# Altium schematic symbol library MCU.SchLib: 10 symbols
Pins are listed as number, name and electrical type; pins without a type are passive.

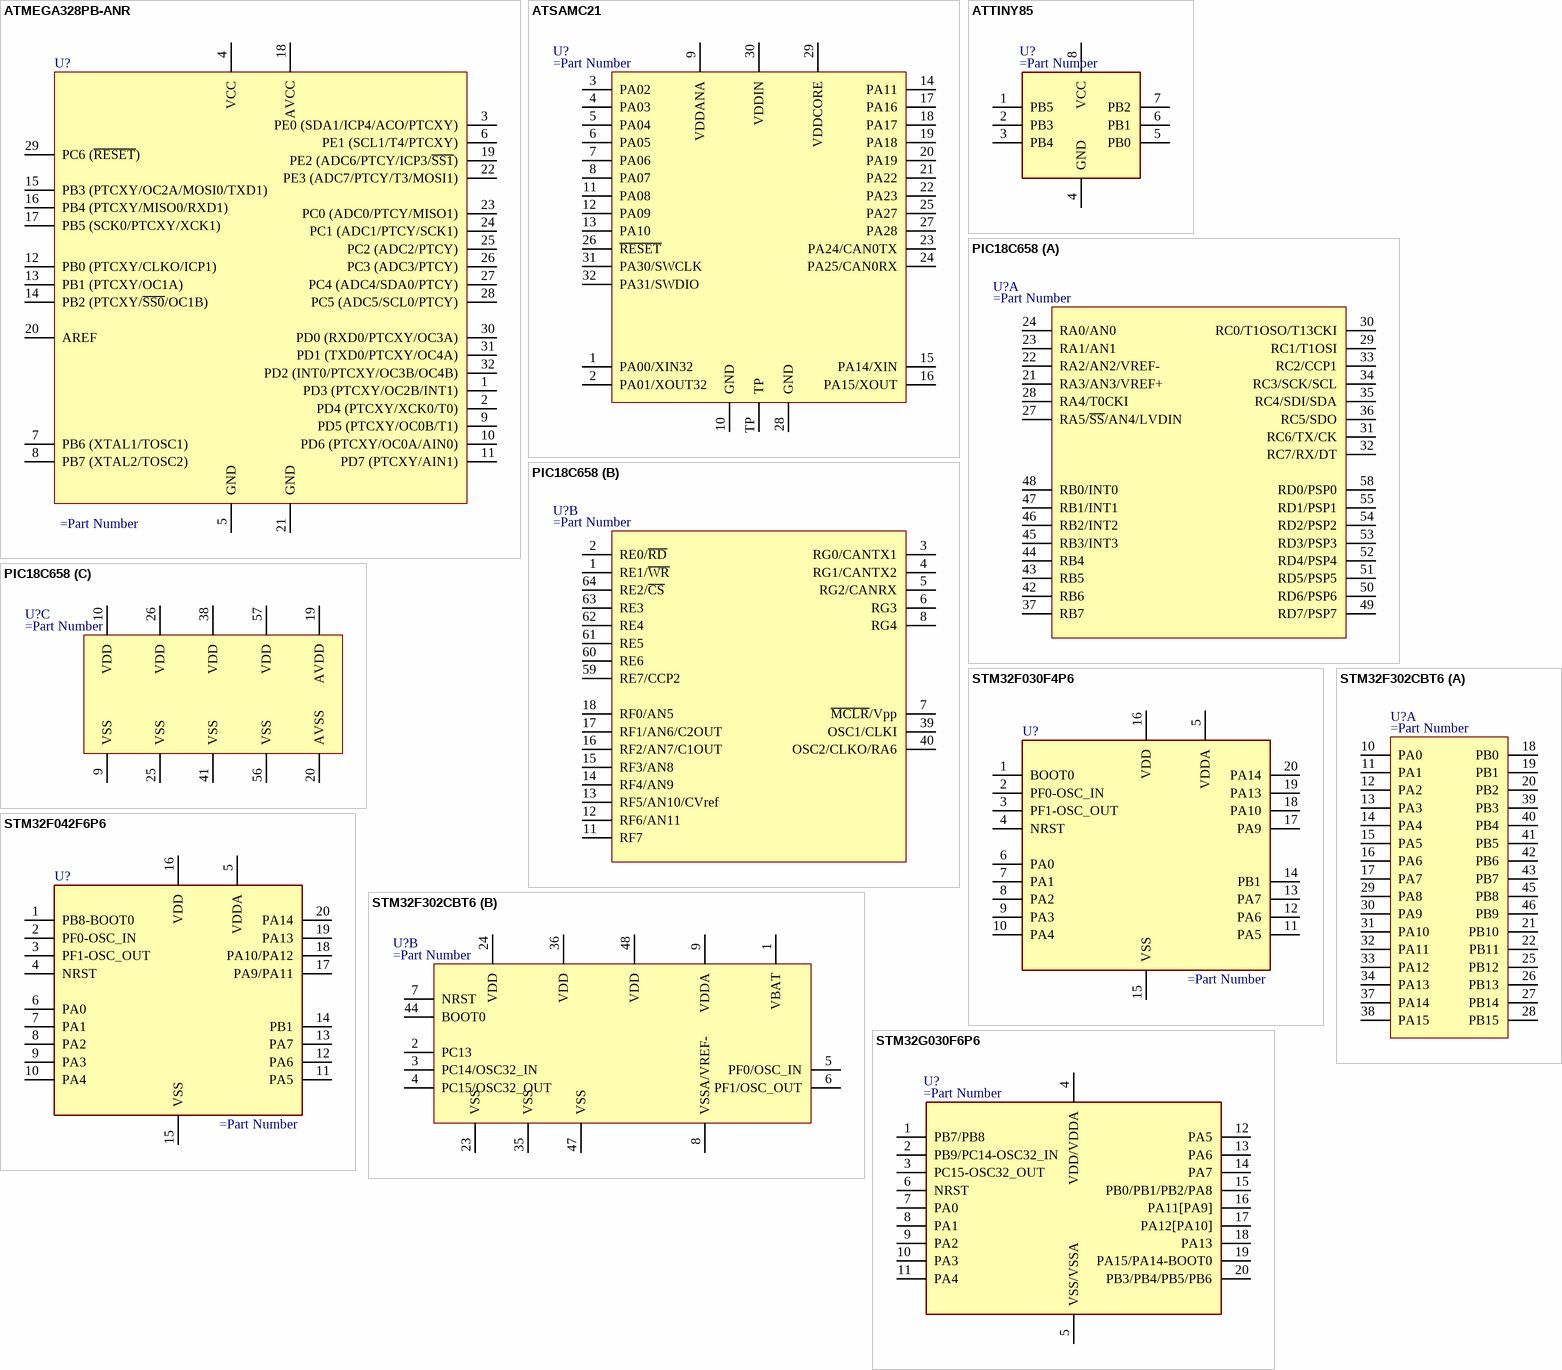
[diagram p0: symbols ATMEGA328PB-ANR to STM32G030F6P6]

## ATMEGA328PB-ANR
designator U?
pins: 1 PD3 (PTCXY/OC2B/INT1), 2 PD4 (PTCXY/XCK0/T0), 3 PE0 (SDA1/ICP4/ACO/PTCXY), 4 VCC (power), 5 GND (power), 6 PE1 (SCL1/T4/PTCXY), 7 PB6 (XTAL1/TOSC1), 8 PB7 (XTAL2/TOSC2), 9 PD5 (PTCXY/OC0B/T1), 10 PD6 (PTCXY/OC0A/AIN0), 11 PD7 (PTCXY/AIN1), 12 PB0 (PTCXY/CLKO/ICP1), 13 PB1 (PTCXY/OC1A), 14 PB2 (PTCXY/~{SS0}/OC1B), 15 PB3 (PTCXY/OC2A/MOSI0/TXD1), 16 PB4 (PTCXY/MISO0/RXD1), 17 PB5 (SCK0/PTCXY/XCK1), 18 AVCC (power), 19 PE2 (ADC6/PTCY/ICP3/~{SS1}), 20 AREF, 21 GND (power), 22 PE3 (ADC7/PTCY/T3/MOSI1), 23 PC0 (ADC0/PTCY/MISO1), 24 PC1 (ADC1/PTCY/SCK1), 25 PC2 (ADC2/PTCY), 26 PC3 (ADC3/PTCY), 27 PC4 (ADC4/SDA0/PTCY), 28 PC5 (ADC5/SCL0/PTCY), 29 PC6 (~{RESET}), 30 PD0 (RXD0/PTCXY/OC3A), 31 PD1 (TXD0/PTCXY/OC4A), 32 PD2 (INT0/PTCXY/OC3B/OC4B)

## ATSAMC21
designator U?
pins: 1 PA00/XIN32, 2 PA01/XOUT32, 3 PA02, 4 PA03, 5 PA04, 6 PA05, 7 PA06, 8 PA07, 9 VDDANA, 10 GND, 11 PA08, 12 PA09, 13 PA10, 14 PA11, 15 PA14/XIN, 16 PA15/XOUT, 17 PA16, 18 PA17, 19 PA18, 20 PA19, 21 PA22, 22 PA23, 23 PA24/CAN0TX, 24 PA25/CAN0RX, 25 PA27, 26 ~{RESET}, 27 PA28, 28 GND, 29 VDDCORE, 30 VDDIN, 31 PA30/SWCLK, 32 PA31/SWDIO, TP

## ATTINY85
designator U?
pins: 1 PB5, 2 PB3, 3 PB4, 4 GND, 5 PB0, 6 PB1, 7 PB2, 8 VCC

## PIC18C658
designator U?
part A pins: 21 RA3/AN3/VREF+, 22 RA2/AN2/VREF-, 23 RA1/AN1, 24 RA0/AN0, 27 RA5/~{SS}/AN4/LVDIN, 28 RA4/T0CKI, 29 RC1/T1OSI, 30 RC0/T1OSO/T13CKI, 31 RC6/TX/CK, 32 RC7/RX/DT, 33 RC2/CCP1, 34 RC3/SCK/SCL, 35 RC4/SDI/SDA, 36 RC5/SDO, 37 RB7, 42 RB6, 43 RB5, 44 RB4, 45 RB3/INT3, 46 RB2/INT2, 47 RB1/INT1, 48 RB0/INT0, 49 RD7/PSP7, 50 RD6/PSP6, 51 RD5/PSP5, 52 RD4/PSP4, 53 RD3/PSP3, 54 RD2/PSP2, 55 RD1/PSP1, 58 RD0/PSP0
part B pins: 1 RE1/~{WR}, 2 RE0/~{RD}, 3 RG0/CANTX1, 4 RG1/CANTX2, 5 RG2/CANRX, 6 RG3, 7 ~{MCLR}/Vpp, 8 RG4, 11 RF7, 12 RF6/AN11, 13 RF5/AN10/CVref, 14 RF4/AN9, 15 RF3/AN8, 16 RF2/AN7/C1OUT, 17 RF1/AN6/C2OUT, 18 RF0/AN5, 39 OSC1/CLKI, 40 OSC2/CLKO/RA6, 59 RE7/CCP2, 60 RE6, 61 RE5, 62 RE4, 63 RE3, 64 RE2/~{CS}
part C pins: 9 VSS, 10 VDD, 19 AVDD, 20 AVSS, 25 VSS, 26 VDD, 38 VDD, 41 VSS, 56 VSS, 57 VDD

## STM32F030F4P6
designator U?
pins: 1 BOOT0, 2 PF0-OSC_IN, 3 PF1-OSC_OUT, 4 NRST, 5 VDDA, 6 PA0, 7 PA1, 8 PA2, 9 PA3, 10 PA4, 11 PA5, 12 PA6, 13 PA7, 14 PB1, 15 VSS, 16 VDD, 17 PA9, 18 PA10, 19 PA13, 20 PA14

## STM32F042F6P6
designator U?
pins: 1 PB8-BOOT0, 2 PF0-OSC_IN, 3 PF1-OSC_OUT, 4 NRST, 5 VDDA, 6 PA0, 7 PA1, 8 PA2, 9 PA3, 10 PA4, 11 PA5, 12 PA6, 13 PA7, 14 PB1, 15 VSS, 16 VDD, 17 PA9/PA11, 18 PA10/PA12, 19 PA13, 20 PA14

## STM32F302CBT6
designator U?
part A pins: 10 PA0, 11 PA1, 12 PA2, 13 PA3, 14 PA4, 15 PA5, 16 PA6, 17 PA7, 18 PB0, 19 PB1, 20 PB2, 21 PB10, 22 PB11, 25 PB12, 26 PB13, 27 PB14, 28 PB15, 29 PA8, 30 PA9, 31 PA10, 32 PA11, 33 PA12, 34 PA13, 37 PA14, 38 PA15, 39 PB3, 40 PB4, 41 PB5, 42 PB6, 43 PB7, 45 PB8, 46 PB9
part B pins: 1 VBAT, 2 PC13, 3 PC14/OSC32_IN, 4 PC15/OSC32_OUT, 5 PF0/OSC_IN, 6 PF1/OSC_OUT, 7 NRST, 8 VSSA/VREF-, 9 VDDA, 23 VSS, 24 VDD, 35 VSS, 36 VDD, 44 BOOT0, 47 VSS, 48 VDD

## STM32G030F6P6
designator U?
pins: 1 PB7/PB8, 2 PB9/PC14-OSC32_IN, 3 PC15-OSC32_OUT, 4 VDD/VDDA, 5 VSS/VSSA, 6 NRST, 7 PA0, 8 PA1, 9 PA2, 10 PA3, 11 PA4, 12 PA5, 13 PA6, 14 PA7, 15 PB0/PB1/PB2/PA8, 16 PA11[PA9], 17 PA12[PA10], 18 PA13, 19 PA15/PA14-BOOT0, 20 PB3/PB4/PB5/PB6

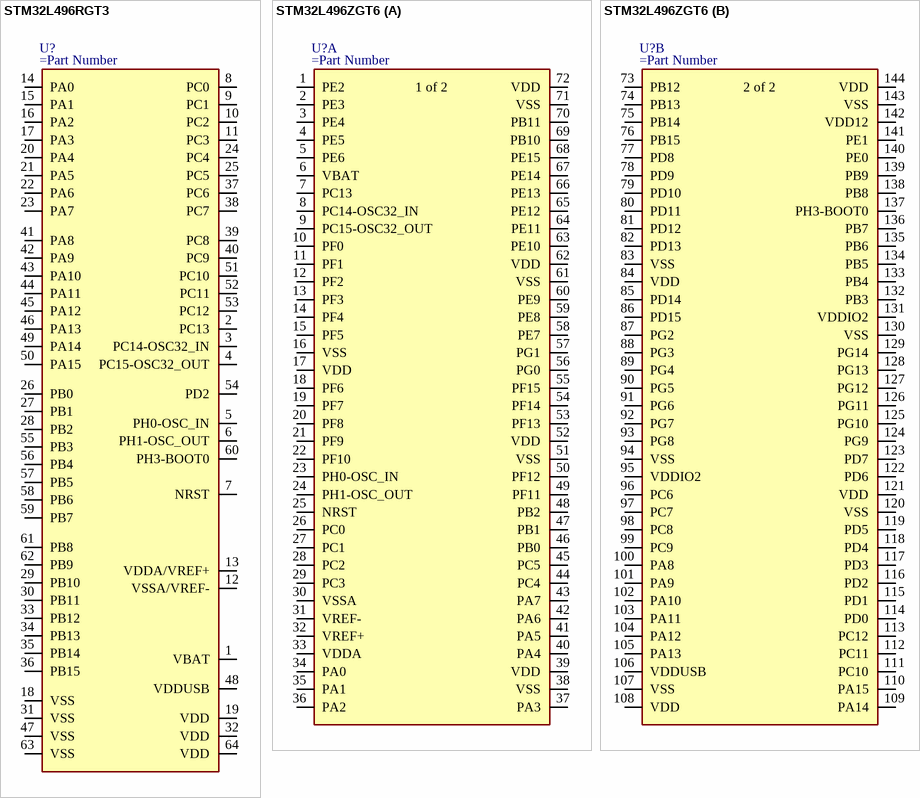
[diagram p1: symbols STM32L496RGT3 to STM32L496ZGT6]

## STM32L496RGT3
designator U?
pins: 1 VBAT, 2 PC13, 3 PC14-OSC32_IN, 4 PC15-OSC32_OUT, 5 PH0-OSC_IN, 6 PH1-OSC_OUT, 7 NRST, 8 PC0, 9 PC1, 10 PC2, 11 PC3, 12 VSSA/VREF-, 13 VDDA/VREF+, 14 PA0, 15 PA1, 16 PA2, 17 PA3, 18 VSS, 19 VDD, 20 PA4, 21 PA5, 22 PA6, 23 PA7, 24 PC4, 25 PC5, 26 PB0, 27 PB1, 28 PB2, 29 PB10, 30 PB11, 31 VSS, 32 VDD, 33 PB12, 34 PB13, 35 PB14, 36 PB15, 37 PC6, 38 PC7, 39 PC8, 40 PC9, 41 PA8, 42 PA9, 43 PA10, 44 PA11, 45 PA12, 46 PA13, 47 VSS, 48 VDDUSB, 49 PA14, 50 PA15, 51 PC10, 52 PC11, 53 PC12, 54 PD2, 55 PB3, 56 PB4, 57 PB5, 58 PB6, 59 PB7, 60 PH3-BOOT0, 61 PB8, 62 PB9, 63 VSS, 64 VDD

## STM32L496ZGT6
designator U?
part A pins: 1 PE2 (io), 2 PE3 (io), 3 PE4 (io), 4 PE5 (io), 5 PE6 (io), 6 VBAT (power), 7 PC13 (io), 8 PC14-OSC32_IN (io), 9 PC15-OSC32_OUT (io), 10 PF0 (io), 11 PF1 (io), 12 PF2 (io), 13 PF3 (io), 14 PF4 (io), 15 PF5 (io), 16 VSS (power), 17 VDD (power), 18 PF6 (io), 19 PF7 (io), 20 PF8 (io), 21 PF9 (io), 22 PF10 (io), 23 PH0-OSC_IN (io), 24 PH1-OSC_OUT (io), 25 NRST (io), 26 PC0 (io), 27 PC1 (io), 28 PC2 (io), 29 PC3 (io), 30 VSSA (power), 31 VREF- (power), 32 VREF+ (power), 33 VDDA (power), 34 PA0 (io), 35 PA1 (io), 36 PA2 (io), 37 PA3 (io), 38 VSS (power), 39 VDD (power), 40 PA4 (io), 41 PA5 (io), 42 PA6 (io), 43 PA7 (io), 44 PC4 (io), 45 PC5 (io), 46 PB0 (io), 47 PB1 (io), 48 PB2 (io), 49 PF11 (io), 50 PF12 (io), 51 VSS (power), 52 VDD (power), 53 PF13 (io), 54 PF14 (io), 55 PF15 (io), 56 PG0 (io), 57 PG1 (io), 58 PE7 (io), 59 PE8 (io), 60 PE9 (io), 61 VSS (power), 62 VDD (power), 63 PE10 (io), 64 PE11 (io), 65 PE12 (io), 66 PE13 (io), 67 PE14 (io), 68 PE15 (io), 69 PB10 (io), 70 PB11 (io), 71 VSS (power), 72 VDD (power)
part B pins: 73 PB12 (io), 74 PB13 (io), 75 PB14 (io), 76 PB15 (io), 77 PD8 (io), 78 PD9 (io), 79 PD10 (io), 80 PD11 (io), 81 PD12 (io), 82 PD13 (io), 83 VSS (power), 84 VDD (power), 85 PD14 (io), 86 PD15 (io), 87 PG2 (io), 88 PG3 (io), 89 PG4 (io), 90 PG5 (io), 91 PG6 (io), 92 PG7 (io), 93 PG8 (io), 94 VSS (power), 95 VDDIO2 (power), 96 PC6 (io), 97 PC7 (io), 98 PC8 (io), 99 PC9 (io), 100 PA8 (io), 101 PA9 (io), 102 PA10 (io), 103 PA11 (io), 104 PA12 (io), 105 PA13 (io), 106 VDDUSB (power), 107 VSS (power), 108 VDD (power), 109 PA14 (io), 110 PA15 (io), 111 PC10 (io), 112 PC11 (io), 113 PC12 (io), 114 PD0 (io), 115 PD1 (io), 116 PD2 (io), 117 PD3 (io), 118 PD4 (io), 119 PD5 (io), 120 VSS (power), 121 VDD (power), 122 PD6 (io), 123 PD7 (io), 124 PG9 (io), 125 PG10 (io), 126 PG11 (io), 127 PG12 (io), 128 PG13 (io), 129 PG14 (io), 130 VSS (power), 131 VDDIO2 (power), 132 PB3 (io), 133 PB4 (io), 134 PB5 (io), 135 PB6 (io), 136 PB7 (io), 137 PH3-BOOT0 (io), 138 PB8 (io), 139 PB9 (io), 140 PE0 (io), 141 PE1 (io), 142 VDD12 (power), 143 VSS (power), 144 VDD (power)
part A text: 1 of 2
part B text: 2 of 2